# Altium footprint library 2PIN_PWR_SUPPLY.PcbLib: 1 footprints
Each footprint in its own frame and in the unit in brackets; x right, y up, seen from the top. Pads: shape width x height; smd on the part's side, far side on the other; paste and mask are expansions set on the pad; w line width, h text height; cw(c..) or ccw(c..) is an arc to the next point about the centre after c.
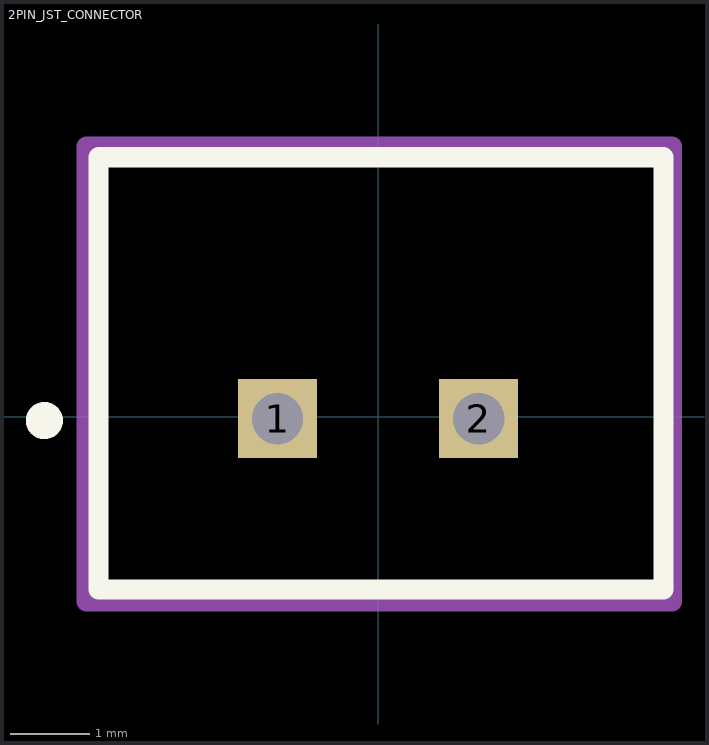
[diagram p0: the footprint, top view; thin cyan lines are the x and y axes]

## 2PIN_JST_CONNECTOR [mm]
pads (2):
  rect 1x1 hole 0.65 square: 1(-1.27,-0.025) 2(1.27,-0.025)
Top Overlay:
  circle w0.254: c-4.216,-0.051 r0.108
  lines w0.254: -3.531,-2.184 3.607,-2.184 3.607,3.277 -3.531,3.277 -3.531,-2.184
Mechanical 1:
  lines w0.254: -3.683,-2.337 -3.683,3.413 3.717,3.413 3.717,-2.337 -3.683,-2.337
3D body "JST_XH-2PIN.STEP": height 7, standoff -2.4, extent -3.675,-2.362 3.725,3.388